# Altium schematic symbol library TPS63030DSK.SchLib: 1 symbol
Pins are listed as number, name and electrical type; pins without a type are passive.

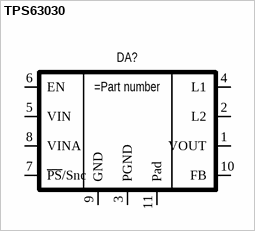
[diagram p0: symbol TPS63030]

## TPS63030
designator DA?
High Efficiency Single Inductor Buck-Boost Converter With 1-A Switches
pins: 1 VOUT, 2 L2, 3 PGND, 4 L1, 5 VIN, 6 EN, 7 ~{PS}/Snc, 8 VINA, 9 GND, 10 FB, 11 Pad